# Altium footprint library Connector_Samtec_HLE_SMD.PcbLib: 290 footprints (part 19 of 24)
Each footprint in its own frame and in the unit in brackets; x right, y up, seen from the top. Pads: shape width x height; smd on the part's side, far side on the other; paste and mask are expansions set on the pad; w line width, h text height; cw(c..) or ccw(c..) is an arc to the next point about the centre after c.
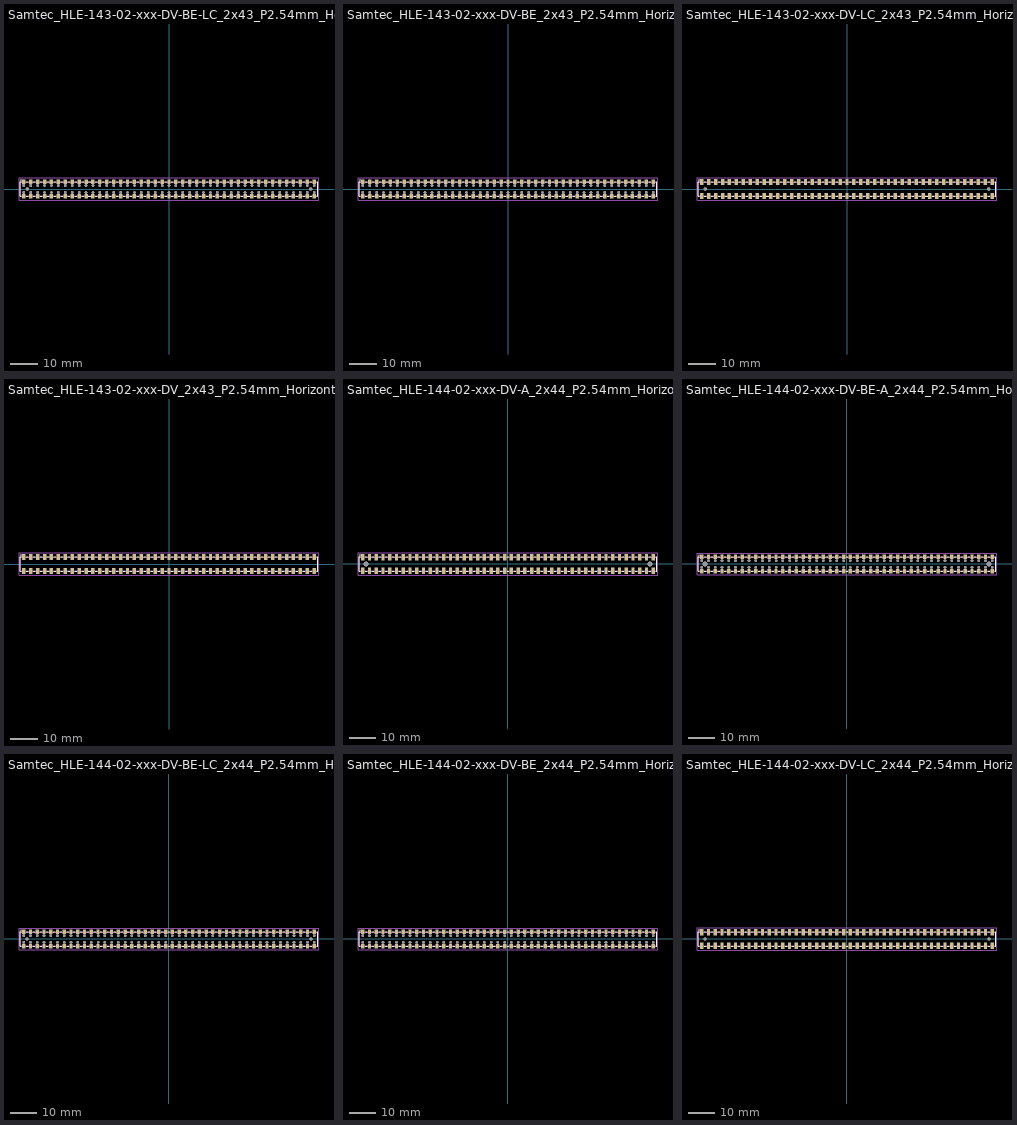
[diagram p18: the footprints below, top view; thin cyan lines are the x and y axes]

## Samtec_HLE-143-02-xxx-DV-BE-LC_2x43_P2.54mm_Horizontal [mm]
pads (174):
  rect 1.27x1.68 smd: 1(-53.34,2.72) 2(-53.34,-2.72) 3(-50.8,2.72) 4(-50.8,-2.72) 5(-48.26,2.72) 6(-48.26,-2.72) 7(-45.72,2.72) 8(-45.72,-2.72) 9(-43.18,2.72) 10(-43.18,-2.72) 11(-40.64,2.72) 12(-40.64,-2.72) 13(-38.1,2.72) 14(-38.1,-2.72) 15(-35.56,2.72) 16(-35.56,-2.72) 17(-33.02,2.72) 18(-33.02,-2.72) 19(-30.48,2.72) 20(-30.48,-2.72) 21(-27.94,2.72) 22(-27.94,-2.72) 23(-25.4,2.72) 24(-25.4,-2.72) 25(-22.86,2.72) 26(-22.86,-2.72) 27(-20.32,2.72) 28(-20.32,-2.72) 29(-17.78,2.72) 30(-17.78,-2.72) 31(-15.24,2.72) 32(-15.24,-2.72) 33(-12.7,2.72) 34(-12.7,-2.72) 35(-10.16,2.72) 36(-10.16,-2.72) 37(-7.62,2.72) 38(-7.62,-2.72) 39(-5.08,2.72) 40(-5.08,-2.72) 41(-2.54,2.72) 42(-2.54,-2.72) 43(0,2.72) 44(0,-2.72) 45(2.54,2.72) 46(2.54,-2.72) 47(5.08,2.72) 48(5.08,-2.72) 49(7.62,2.72) 50(7.62,-2.72) 51(10.16,2.72) 52(10.16,-2.72) 53(12.7,2.72) 54(12.7,-2.72) 55(15.24,2.72) 56(15.24,-2.72) 57(17.78,2.72) 58(17.78,-2.72) 59(20.32,2.72) 60(20.32,-2.72) 61(22.86,2.72) 62(22.86,-2.72) 63(25.4,2.72) 64(25.4,-2.72) 65(27.94,2.72) 66(27.94,-2.72) 67(30.48,2.72) 68(30.48,-2.72) 69(33.02,2.72) 70(33.02,-2.72) 71(35.56,2.72) 72(35.56,-2.72) 73(38.1,2.72) 74(38.1,-2.72) 75(40.64,2.72) 76(40.64,-2.72) 77(43.18,2.72) 78(43.18,-2.72) 79(45.72,2.72) 80(45.72,-2.72) 81(48.26,2.72) 82(48.26,-2.72) 83(50.8,2.72) 84(50.8,-2.72) 85(53.34,2.72) 86(53.34,-2.72)
  round 0.97 hole 0.97: Un1(-53.34,1.27) Un2(-53.34,-1.27) Un4(-50.8,1.27) Un5(-50.8,-1.27) Un6(-48.26,1.27) Un7(-48.26,-1.27) Un8(-45.72,1.27) Un9(-45.72,-1.27) Un10(-43.18,1.27) Un11(-43.18,-1.27) Un12(-40.64,1.27) Un13(-40.64,-1.27) Un14(-38.1,1.27) Un15(-38.1,-1.27) Un16(-35.56,1.27) Un17(-35.56,-1.27) Un18(-33.02,1.27) Un19(-33.02,-1.27) Un20(-30.48,1.27) Un21(-30.48,-1.27) Un22(-27.94,1.27) Un23(-27.94,-1.27) Un24(-25.4,1.27) Un25(-25.4,-1.27) Un26(-22.86,1.27) Un27(-22.86,-1.27) Un28(-20.32,1.27) Un29(-20.32,-1.27) Un30(-17.78,1.27) Un31(-17.78,-1.27) Un32(-15.24,1.27) Un33(-15.24,-1.27) Un34(-12.7,1.27) Un35(-12.7,-1.27) Un36(-10.16,1.27) Un37(-10.16,-1.27) Un38(-7.62,1.27) Un39(-7.62,-1.27) Un40(-5.08,1.27) Un41(-5.08,-1.27) Un42(-2.54,1.27) Un43(-2.54,-1.27) Un44(0,1.27) Un45(0,-1.27) Un46(2.54,1.27) Un47(2.54,-1.27) Un48(5.08,1.27) Un49(5.08,-1.27) Un50(7.62,1.27) Un51(7.62,-1.27) Un52(10.16,1.27) Un53(10.16,-1.27) Un54(12.7,1.27) Un55(12.7,-1.27) Un56(15.24,1.27) Un57(15.24,-1.27) Un58(17.78,1.27) Un59(17.78,-1.27) Un60(20.32,1.27) Un61(20.32,-1.27) Un62(22.86,1.27) Un63(22.86,-1.27) Un64(25.4,1.27) Un65(25.4,-1.27) Un66(27.94,1.27) Un67(27.94,-1.27) Un68(30.48,1.27) Un69(30.48,-1.27) Un70(33.02,1.27) Un71(33.02,-1.27) Un72(35.56,1.27) Un73(35.56,-1.27) Un74(38.1,1.27) Un75(38.1,-1.27) Un76(40.64,1.27) Un77(40.64,-1.27) Un78(43.18,1.27) Un79(43.18,-1.27) Un80(45.72,1.27) Un81(45.72,-1.27) Un82(48.26,1.27) Un83(48.26,-1.27) Un84(50.8,1.27) Un85(50.8,-1.27) Un87(53.34,1.27) Un88(53.34,-1.27)
  round 1.19 hole 1.19: Un3(-52.07,0) Un86(52.07,0)
F.SilkS:
  lines w0.254: -54.235,-2.65 -54.72,-2.65 -54.72,2.65 -54.235,2.65 -54.235,3.56 ; -52.445,-2.65 -51.695,-2.65 ; -52.445,2.65 -51.695,2.65 ; -49.905,-2.65 -49.155,-2.65 ; -49.905,2.65 -49.155,2.65 ; -47.365,-2.65 -46.615,-2.65 ; -47.365,2.65 -46.615,2.65 ; -44.825,-2.65 -44.075,-2.65 ; -44.825,2.65 -44.075,2.65 ; -42.285,-2.65 -41.535,-2.65 ; -42.285,2.65 -41.535,2.65 ; -39.745,-2.65 -38.995,-2.65 ; -39.745,2.65 -38.995,2.65 ; -37.205,-2.65 -36.455,-2.65 ; -37.205,2.65 -36.455,2.65 ; -34.665,-2.65 -33.915,-2.65 ; -34.665,2.65 -33.915,2.65 ; -32.125,-2.65 -31.375,-2.65 ; -32.125,2.65 -31.375,2.65 ; -29.585,-2.65 -28.835,-2.65 ; -29.585,2.65 -28.835,2.65 ; -27.045,-2.65 -26.295,-2.65 ; -27.045,2.65 -26.295,2.65 ; -24.505,-2.65 -23.755,-2.65 ; -24.505,2.65 -23.755,2.65 ; -21.965,-2.65 -21.215,-2.65 ; -21.965,2.65 -21.215,2.65 ; -19.425,-2.65 -18.675,-2.65 ; -19.425,2.65 -18.675,2.65 ; -16.885,-2.65 -16.135,-2.65 ; -16.885,2.65 -16.135,2.65 ; -14.345,-2.65 -13.595,-2.65 ; -14.345,2.65 -13.595,2.65 ; -11.805,-2.65 -11.055,-2.65 ; -11.805,2.65 -11.055,2.65 ; -9.265,-2.65 -8.515,-2.65 ; -9.265,2.65 -8.515,2.65 ; -6.725,-2.65 -5.975,-2.65 ; -6.725,2.65 -5.975,2.65 ; -4.185,-2.65 -3.435,-2.65 ; -4.185,2.65 -3.435,2.65 ; -1.645,-2.65 -0.895,-2.65 ; -1.645,2.65 -0.895,2.65 ; 0.895,-2.65 1.645,-2.65 ; 0.895,2.65 1.645,2.65 ; 3.435,-2.65 4.185,-2.65 ; 3.435,2.65 4.185,2.65 ; 5.975,-2.65 6.725,-2.65 ; 5.975,2.65 6.725,2.65 ; 8.515,-2.65 9.265,-2.65 ; 8.515,2.65 9.265,2.65 ; 11.055,-2.65 11.805,-2.65 ; 11.055,2.65 11.805,2.65 ; 13.595,-2.65 14.345,-2.65 ; 13.595,2.65 14.345,2.65 ; 16.135,-2.65 16.885,-2.65 ; 16.135,2.65 16.885,2.65 ; 18.675,-2.65 19.425,-2.65 ; 18.675,2.65 19.425,2.65 ; 21.215,-2.65 21.965,-2.65 ; 21.215,2.65 21.965,2.65 ; 23.755,-2.65 24.505,-2.65 ; 23.755,2.65 24.505,2.65 ; 26.295,-2.65 27.045,-2.65 ; 26.295,2.65 27.045,2.65 ; 28.835,-2.65 29.585,-2.65 ; 28.835,2.65 29.585,2.65 ; 31.375,-2.65 32.125,-2.65 ; 31.375,2.65 32.125,2.65 ; 33.915,-2.65 34.665,-2.65 ; 33.915,2.65 34.665,2.65 ; 36.455,-2.65 37.205,-2.65 ; 36.455,2.65 37.205,2.65 ; 38.995,-2.65 39.745,-2.65 ; 38.995,2.65 39.745,2.65 ; 41.535,-2.65 42.285,-2.65 ; 41.535,2.65 42.285,2.65 ; 44.075,-2.65 44.825,-2.65 ; 44.075,2.65 44.825,2.65 ; 46.615,-2.65 47.365,-2.65 ; 46.615,2.65 47.365,2.65 ; 49.155,-2.65 49.905,-2.65 ; 49.155,2.65 49.905,2.65 ; 51.695,-2.65 52.445,-2.65 ; 51.695,2.65 52.445,2.65 ; 54.235,-2.65 54.72,-2.65 54.72,2.65 54.235,2.65
Top Assembly:
  lines w0.254: -53.84,2.54 -53.34,1.833 -52.84,2.54 ; -54.61,-2.54 54.61,-2.54 54.61,2.54 -54.61,2.54 -54.61,-2.54
  text "'.Designator'" at -4.047,-2.68 h1
Top Courtyard:
  lines w0.254: -55.11,-4.07 55.11,-4.07 55.11,4.07 -55.11,4.07 -55.11,-4.07
Top Designator:
  text ".Designator" at -7.618,-0.508 h1.52

## Samtec_HLE-143-02-xxx-DV-BE_2x43_P2.54mm_Horizontal [mm]
pads (172):
  rect 1.27x1.68 smd: 1(-53.34,2.72) 2(-53.34,-2.72) 3(-50.8,2.72) 4(-50.8,-2.72) 5(-48.26,2.72) 6(-48.26,-2.72) 7(-45.72,2.72) 8(-45.72,-2.72) 9(-43.18,2.72) 10(-43.18,-2.72) 11(-40.64,2.72) 12(-40.64,-2.72) 13(-38.1,2.72) 14(-38.1,-2.72) 15(-35.56,2.72) 16(-35.56,-2.72) 17(-33.02,2.72) 18(-33.02,-2.72) 19(-30.48,2.72) 20(-30.48,-2.72) 21(-27.94,2.72) 22(-27.94,-2.72) 23(-25.4,2.72) 24(-25.4,-2.72) 25(-22.86,2.72) 26(-22.86,-2.72) 27(-20.32,2.72) 28(-20.32,-2.72) 29(-17.78,2.72) 30(-17.78,-2.72) 31(-15.24,2.72) 32(-15.24,-2.72) 33(-12.7,2.72) 34(-12.7,-2.72) 35(-10.16,2.72) 36(-10.16,-2.72) 37(-7.62,2.72) 38(-7.62,-2.72) 39(-5.08,2.72) 40(-5.08,-2.72) 41(-2.54,2.72) 42(-2.54,-2.72) 43(0,2.72) 44(0,-2.72) 45(2.54,2.72) 46(2.54,-2.72) 47(5.08,2.72) 48(5.08,-2.72) 49(7.62,2.72) 50(7.62,-2.72) 51(10.16,2.72) 52(10.16,-2.72) 53(12.7,2.72) 54(12.7,-2.72) 55(15.24,2.72) 56(15.24,-2.72) 57(17.78,2.72) 58(17.78,-2.72) 59(20.32,2.72) 60(20.32,-2.72) 61(22.86,2.72) 62(22.86,-2.72) 63(25.4,2.72) 64(25.4,-2.72) 65(27.94,2.72) 66(27.94,-2.72) 67(30.48,2.72) 68(30.48,-2.72) 69(33.02,2.72) 70(33.02,-2.72) 71(35.56,2.72) 72(35.56,-2.72) 73(38.1,2.72) 74(38.1,-2.72) 75(40.64,2.72) 76(40.64,-2.72) 77(43.18,2.72) 78(43.18,-2.72) 79(45.72,2.72) 80(45.72,-2.72) 81(48.26,2.72) 82(48.26,-2.72) 83(50.8,2.72) 84(50.8,-2.72) 85(53.34,2.72) 86(53.34,-2.72)
  round 0.97 hole 0.97: Un1(-53.34,1.27) Un2(-53.34,-1.27) Un3(-50.8,1.27) Un4(-50.8,-1.27) Un5(-48.26,1.27) Un6(-48.26,-1.27) Un7(-45.72,1.27) Un8(-45.72,-1.27) Un9(-43.18,1.27) Un10(-43.18,-1.27) Un11(-40.64,1.27) Un12(-40.64,-1.27) Un13(-38.1,1.27) Un14(-38.1,-1.27) Un15(-35.56,1.27) Un16(-35.56,-1.27) Un17(-33.02,1.27) Un18(-33.02,-1.27) Un19(-30.48,1.27) Un20(-30.48,-1.27) Un21(-27.94,1.27) Un22(-27.94,-1.27) Un23(-25.4,1.27) Un24(-25.4,-1.27) Un25(-22.86,1.27) Un26(-22.86,-1.27) Un27(-20.32,1.27) Un28(-20.32,-1.27) Un29(-17.78,1.27) Un30(-17.78,-1.27) Un31(-15.24,1.27) Un32(-15.24,-1.27) Un33(-12.7,1.27) Un34(-12.7,-1.27) Un35(-10.16,1.27) Un36(-10.16,-1.27) Un37(-7.62,1.27) Un38(-7.62,-1.27) Un39(-5.08,1.27) Un40(-5.08,-1.27) Un41(-2.54,1.27) Un42(-2.54,-1.27) Un43(0,1.27) Un44(0,-1.27) Un45(2.54,1.27) Un46(2.54,-1.27) Un47(5.08,1.27) Un48(5.08,-1.27) Un49(7.62,1.27) Un50(7.62,-1.27) Un51(10.16,1.27) Un52(10.16,-1.27) Un53(12.7,1.27) Un54(12.7,-1.27) Un55(15.24,1.27) Un56(15.24,-1.27) Un57(17.78,1.27) Un58(17.78,-1.27) Un59(20.32,1.27) Un60(20.32,-1.27) Un61(22.86,1.27) Un62(22.86,-1.27) Un63(25.4,1.27) Un64(25.4,-1.27) Un65(27.94,1.27) Un66(27.94,-1.27) Un67(30.48,1.27) Un68(30.48,-1.27) Un69(33.02,1.27) Un70(33.02,-1.27) Un71(35.56,1.27) Un72(35.56,-1.27) Un73(38.1,1.27) Un74(38.1,-1.27) Un75(40.64,1.27) Un76(40.64,-1.27) Un77(43.18,1.27) Un78(43.18,-1.27) Un79(45.72,1.27) Un80(45.72,-1.27) Un81(48.26,1.27) Un82(48.26,-1.27) Un83(50.8,1.27) Un84(50.8,-1.27) Un85(53.34,1.27) Un86(53.34,-1.27)
F.SilkS:
  lines w0.254: -54.235,-2.65 -54.72,-2.65 -54.72,2.65 -54.235,2.65 -54.235,3.56 ; -52.445,-2.65 -51.695,-2.65 ; -52.445,2.65 -51.695,2.65 ; -49.905,-2.65 -49.155,-2.65 ; -49.905,2.65 -49.155,2.65 ; -47.365,-2.65 -46.615,-2.65 ; -47.365,2.65 -46.615,2.65 ; -44.825,-2.65 -44.075,-2.65 ; -44.825,2.65 -44.075,2.65 ; -42.285,-2.65 -41.535,-2.65 ; -42.285,2.65 -41.535,2.65 ; -39.745,-2.65 -38.995,-2.65 ; -39.745,2.65 -38.995,2.65 ; -37.205,-2.65 -36.455,-2.65 ; -37.205,2.65 -36.455,2.65 ; -34.665,-2.65 -33.915,-2.65 ; -34.665,2.65 -33.915,2.65 ; -32.125,-2.65 -31.375,-2.65 ; -32.125,2.65 -31.375,2.65 ; -29.585,-2.65 -28.835,-2.65 ; -29.585,2.65 -28.835,2.65 ; -27.045,-2.65 -26.295,-2.65 ; -27.045,2.65 -26.295,2.65 ; -24.505,-2.65 -23.755,-2.65 ; -24.505,2.65 -23.755,2.65 ; -21.965,-2.65 -21.215,-2.65 ; -21.965,2.65 -21.215,2.65 ; -19.425,-2.65 -18.675,-2.65 ; -19.425,2.65 -18.675,2.65 ; -16.885,-2.65 -16.135,-2.65 ; -16.885,2.65 -16.135,2.65 ; -14.345,-2.65 -13.595,-2.65 ; -14.345,2.65 -13.595,2.65 ; -11.805,-2.65 -11.055,-2.65 ; -11.805,2.65 -11.055,2.65 ; -9.265,-2.65 -8.515,-2.65 ; -9.265,2.65 -8.515,2.65 ; -6.725,-2.65 -5.975,-2.65 ; -6.725,2.65 -5.975,2.65 ; -4.185,-2.65 -3.435,-2.65 ; -4.185,2.65 -3.435,2.65 ; -1.645,-2.65 -0.895,-2.65 ; -1.645,2.65 -0.895,2.65 ; 0.895,-2.65 1.645,-2.65 ; 0.895,2.65 1.645,2.65 ; 3.435,-2.65 4.185,-2.65 ; 3.435,2.65 4.185,2.65 ; 5.975,-2.65 6.725,-2.65 ; 5.975,2.65 6.725,2.65 ; 8.515,-2.65 9.265,-2.65 ; 8.515,2.65 9.265,2.65 ; 11.055,-2.65 11.805,-2.65 ; 11.055,2.65 11.805,2.65 ; 13.595,-2.65 14.345,-2.65 ; 13.595,2.65 14.345,2.65 ; 16.135,-2.65 16.885,-2.65 ; 16.135,2.65 16.885,2.65 ; 18.675,-2.65 19.425,-2.65 ; 18.675,2.65 19.425,2.65 ; 21.215,-2.65 21.965,-2.65 ; 21.215,2.65 21.965,2.65 ; 23.755,-2.65 24.505,-2.65 ; 23.755,2.65 24.505,2.65 ; 26.295,-2.65 27.045,-2.65 ; 26.295,2.65 27.045,2.65 ; 28.835,-2.65 29.585,-2.65 ; 28.835,2.65 29.585,2.65 ; 31.375,-2.65 32.125,-2.65 ; 31.375,2.65 32.125,2.65 ; 33.915,-2.65 34.665,-2.65 ; 33.915,2.65 34.665,2.65 ; 36.455,-2.65 37.205,-2.65 ; 36.455,2.65 37.205,2.65 ; 38.995,-2.65 39.745,-2.65 ; 38.995,2.65 39.745,2.65 ; 41.535,-2.65 42.285,-2.65 ; 41.535,2.65 42.285,2.65 ; 44.075,-2.65 44.825,-2.65 ; 44.075,2.65 44.825,2.65 ; 46.615,-2.65 47.365,-2.65 ; 46.615,2.65 47.365,2.65 ; 49.155,-2.65 49.905,-2.65 ; 49.155,2.65 49.905,2.65 ; 51.695,-2.65 52.445,-2.65 ; 51.695,2.65 52.445,2.65 ; 54.235,-2.65 54.72,-2.65 54.72,2.65 54.235,2.65
Top Assembly:
  lines w0.254: -53.84,2.54 -53.34,1.833 -52.84,2.54 ; -54.61,-2.54 54.61,-2.54 54.61,2.54 -54.61,2.54 -54.61,-2.54
  text "'.Designator'" at -4.047,-2.68 h1
Top Courtyard:
  lines w0.254: -55.11,-4.07 55.11,-4.07 55.11,4.07 -55.11,4.07 -55.11,-4.07
Top Designator:
  text ".Designator" at -7.618,-0.508 h1.52

## Samtec_HLE-143-02-xxx-DV-LC_2x43_P2.54mm_Horizontal [mm]
pads (88):
  rect 1.27x2.29 smd: 1(-53.34,2.525) 2(-53.34,-2.525) 3(-50.8,2.525) 4(-50.8,-2.525) 5(-48.26,2.525) 6(-48.26,-2.525) 7(-45.72,2.525) 8(-45.72,-2.525) 9(-43.18,2.525) 10(-43.18,-2.525) 11(-40.64,2.525) 12(-40.64,-2.525) 13(-38.1,2.525) 14(-38.1,-2.525) 15(-35.56,2.525) 16(-35.56,-2.525) 17(-33.02,2.525) 18(-33.02,-2.525) 19(-30.48,2.525) 20(-30.48,-2.525) 21(-27.94,2.525) 22(-27.94,-2.525) 23(-25.4,2.525) 24(-25.4,-2.525) 25(-22.86,2.525) 26(-22.86,-2.525) 27(-20.32,2.525) 28(-20.32,-2.525) 29(-17.78,2.525) 30(-17.78,-2.525) 31(-15.24,2.525) 32(-15.24,-2.525) 33(-12.7,2.525) 34(-12.7,-2.525) 35(-10.16,2.525) 36(-10.16,-2.525) 37(-7.62,2.525) 38(-7.62,-2.525) 39(-5.08,2.525) 40(-5.08,-2.525) 41(-2.54,2.525) 42(-2.54,-2.525) 43(0,2.525) 44(0,-2.525) 45(2.54,2.525) 46(2.54,-2.525) 47(5.08,2.525) 48(5.08,-2.525) 49(7.62,2.525) 50(7.62,-2.525) 51(10.16,2.525) 52(10.16,-2.525) 53(12.7,2.525) 54(12.7,-2.525) 55(15.24,2.525) 56(15.24,-2.525) 57(17.78,2.525) 58(17.78,-2.525) 59(20.32,2.525) 60(20.32,-2.525) 61(22.86,2.525) 62(22.86,-2.525) 63(25.4,2.525) 64(25.4,-2.525) 65(27.94,2.525) 66(27.94,-2.525) 67(30.48,2.525) 68(30.48,-2.525) 69(33.02,2.525) 70(33.02,-2.525) 71(35.56,2.525) 72(35.56,-2.525) 73(38.1,2.525) 74(38.1,-2.525) 75(40.64,2.525) 76(40.64,-2.525) 77(43.18,2.525) 78(43.18,-2.525) 79(45.72,2.525) 80(45.72,-2.525) 81(48.26,2.525) 82(48.26,-2.525) 83(50.8,2.525) 84(50.8,-2.525) 85(53.34,2.525) 86(53.34,-2.525)
  round 1.19 hole 1.19: Un1(-52.07,0) Un2(52.07,0)
F.SilkS:
  lines w0.254: -54.235,-2.65 -54.72,-2.65 -54.72,2.65 -54.235,2.65 -54.235,3.67 ; -52.445,-2.65 -51.695,-2.65 ; -52.445,2.65 -51.695,2.65 ; -49.905,-2.65 -49.155,-2.65 ; -49.905,2.65 -49.155,2.65 ; -47.365,-2.65 -46.615,-2.65 ; -47.365,2.65 -46.615,2.65 ; -44.825,-2.65 -44.075,-2.65 ; -44.825,2.65 -44.075,2.65 ; -42.285,-2.65 -41.535,-2.65 ; -42.285,2.65 -41.535,2.65 ; -39.745,-2.65 -38.995,-2.65 ; -39.745,2.65 -38.995,2.65 ; -37.205,-2.65 -36.455,-2.65 ; -37.205,2.65 -36.455,2.65 ; -34.665,-2.65 -33.915,-2.65 ; -34.665,2.65 -33.915,2.65 ; -32.125,-2.65 -31.375,-2.65 ; -32.125,2.65 -31.375,2.65 ; -29.585,-2.65 -28.835,-2.65 ; -29.585,2.65 -28.835,2.65 ; -27.045,-2.65 -26.295,-2.65 ; -27.045,2.65 -26.295,2.65 ; -24.505,-2.65 -23.755,-2.65 ; -24.505,2.65 -23.755,2.65 ; -21.965,-2.65 -21.215,-2.65 ; -21.965,2.65 -21.215,2.65 ; -19.425,-2.65 -18.675,-2.65 ; -19.425,2.65 -18.675,2.65 ; -16.885,-2.65 -16.135,-2.65 ; -16.885,2.65 -16.135,2.65 ; -14.345,-2.65 -13.595,-2.65 ; -14.345,2.65 -13.595,2.65 ; -11.805,-2.65 -11.055,-2.65 ; -11.805,2.65 -11.055,2.65 ; -9.265,-2.65 -8.515,-2.65 ; -9.265,2.65 -8.515,2.65 ; -6.725,-2.65 -5.975,-2.65 ; -6.725,2.65 -5.975,2.65 ; -4.185,-2.65 -3.435,-2.65 ; -4.185,2.65 -3.435,2.65 ; -1.645,-2.65 -0.895,-2.65 ; -1.645,2.65 -0.895,2.65 ; 0.895,-2.65 1.645,-2.65 ; 0.895,2.65 1.645,2.65 ; 3.435,-2.65 4.185,-2.65 ; 3.435,2.65 4.185,2.65 ; 5.975,-2.65 6.725,-2.65 ; 5.975,2.65 6.725,2.65 ; 8.515,-2.65 9.265,-2.65 ; 8.515,2.65 9.265,2.65 ; 11.055,-2.65 11.805,-2.65 ; 11.055,2.65 11.805,2.65 ; 13.595,-2.65 14.345,-2.65 ; 13.595,2.65 14.345,2.65 ; 16.135,-2.65 16.885,-2.65 ; 16.135,2.65 16.885,2.65 ; 18.675,-2.65 19.425,-2.65 ; 18.675,2.65 19.425,2.65 ; 21.215,-2.65 21.965,-2.65 ; 21.215,2.65 21.965,2.65 ; 23.755,-2.65 24.505,-2.65 ; 23.755,2.65 24.505,2.65 ; 26.295,-2.65 27.045,-2.65 ; 26.295,2.65 27.045,2.65 ; 28.835,-2.65 29.585,-2.65 ; 28.835,2.65 29.585,2.65 ; 31.375,-2.65 32.125,-2.65 ; 31.375,2.65 32.125,2.65 ; 33.915,-2.65 34.665,-2.65 ; 33.915,2.65 34.665,2.65 ; 36.455,-2.65 37.205,-2.65 ; 36.455,2.65 37.205,2.65 ; 38.995,-2.65 39.745,-2.65 ; 38.995,2.65 39.745,2.65 ; 41.535,-2.65 42.285,-2.65 ; 41.535,2.65 42.285,2.65 ; 44.075,-2.65 44.825,-2.65 ; 44.075,2.65 44.825,2.65 ; 46.615,-2.65 47.365,-2.65 ; 46.615,2.65 47.365,2.65 ; 49.155,-2.65 49.905,-2.65 ; 49.155,2.65 49.905,2.65 ; 51.695,-2.65 52.445,-2.65 ; 51.695,2.65 52.445,2.65 ; 54.235,-2.65 54.72,-2.65 54.72,2.65 54.235,2.65
Top Assembly:
  lines w0.254: -53.84,2.54 -53.34,1.833 -52.84,2.54 ; -54.61,-2.54 54.61,-2.54 54.61,2.54 -54.61,2.54 -54.61,-2.54
  text "'.Designator'" at -4.047,-2.68 h1
Top Courtyard:
  lines w0.254: -55.11,-4.17 55.11,-4.17 55.11,4.17 -55.11,4.17 -55.11,-4.17
Top Designator:
  text ".Designator" at -7.618,-0.508 h1.52

## Samtec_HLE-143-02-xxx-DV_2x43_P2.54mm_Horizontal [mm]
pads (86):
  rect 1.27x2.29 smd: 1(-53.34,2.525) 2(-53.34,-2.525) 3(-50.8,2.525) 4(-50.8,-2.525) 5(-48.26,2.525) 6(-48.26,-2.525) 7(-45.72,2.525) 8(-45.72,-2.525) 9(-43.18,2.525) 10(-43.18,-2.525) 11(-40.64,2.525) 12(-40.64,-2.525) 13(-38.1,2.525) 14(-38.1,-2.525) 15(-35.56,2.525) 16(-35.56,-2.525) 17(-33.02,2.525) 18(-33.02,-2.525) 19(-30.48,2.525) 20(-30.48,-2.525) 21(-27.94,2.525) 22(-27.94,-2.525) 23(-25.4,2.525) 24(-25.4,-2.525) 25(-22.86,2.525) 26(-22.86,-2.525) 27(-20.32,2.525) 28(-20.32,-2.525) 29(-17.78,2.525) 30(-17.78,-2.525) 31(-15.24,2.525) 32(-15.24,-2.525) 33(-12.7,2.525) 34(-12.7,-2.525) 35(-10.16,2.525) 36(-10.16,-2.525) 37(-7.62,2.525) 38(-7.62,-2.525) 39(-5.08,2.525) 40(-5.08,-2.525) 41(-2.54,2.525) 42(-2.54,-2.525) 43(0,2.525) 44(0,-2.525) 45(2.54,2.525) 46(2.54,-2.525) 47(5.08,2.525) 48(5.08,-2.525) 49(7.62,2.525) 50(7.62,-2.525) 51(10.16,2.525) 52(10.16,-2.525) 53(12.7,2.525) 54(12.7,-2.525) 55(15.24,2.525) 56(15.24,-2.525) 57(17.78,2.525) 58(17.78,-2.525) 59(20.32,2.525) 60(20.32,-2.525) 61(22.86,2.525) 62(22.86,-2.525) 63(25.4,2.525) 64(25.4,-2.525) 65(27.94,2.525) 66(27.94,-2.525) 67(30.48,2.525) 68(30.48,-2.525) 69(33.02,2.525) 70(33.02,-2.525) 71(35.56,2.525) 72(35.56,-2.525) 73(38.1,2.525) 74(38.1,-2.525) 75(40.64,2.525) 76(40.64,-2.525) 77(43.18,2.525) 78(43.18,-2.525) 79(45.72,2.525) 80(45.72,-2.525) 81(48.26,2.525) 82(48.26,-2.525) 83(50.8,2.525) 84(50.8,-2.525) 85(53.34,2.525) 86(53.34,-2.525)
F.SilkS:
  lines w0.254: -54.235,-2.65 -54.72,-2.65 -54.72,2.65 -54.235,2.65 -54.235,3.67 ; -52.445,-2.65 -51.695,-2.65 ; -52.445,2.65 -51.695,2.65 ; -49.905,-2.65 -49.155,-2.65 ; -49.905,2.65 -49.155,2.65 ; -47.365,-2.65 -46.615,-2.65 ; -47.365,2.65 -46.615,2.65 ; -44.825,-2.65 -44.075,-2.65 ; -44.825,2.65 -44.075,2.65 ; -42.285,-2.65 -41.535,-2.65 ; -42.285,2.65 -41.535,2.65 ; -39.745,-2.65 -38.995,-2.65 ; -39.745,2.65 -38.995,2.65 ; -37.205,-2.65 -36.455,-2.65 ; -37.205,2.65 -36.455,2.65 ; -34.665,-2.65 -33.915,-2.65 ; -34.665,2.65 -33.915,2.65 ; -32.125,-2.65 -31.375,-2.65 ; -32.125,2.65 -31.375,2.65 ; -29.585,-2.65 -28.835,-2.65 ; -29.585,2.65 -28.835,2.65 ; -27.045,-2.65 -26.295,-2.65 ; -27.045,2.65 -26.295,2.65 ; -24.505,-2.65 -23.755,-2.65 ; -24.505,2.65 -23.755,2.65 ; -21.965,-2.65 -21.215,-2.65 ; -21.965,2.65 -21.215,2.65 ; -19.425,-2.65 -18.675,-2.65 ; -19.425,2.65 -18.675,2.65 ; -16.885,-2.65 -16.135,-2.65 ; -16.885,2.65 -16.135,2.65 ; -14.345,-2.65 -13.595,-2.65 ; -14.345,2.65 -13.595,2.65 ; -11.805,-2.65 -11.055,-2.65 ; -11.805,2.65 -11.055,2.65 ; -9.265,-2.65 -8.515,-2.65 ; -9.265,2.65 -8.515,2.65 ; -6.725,-2.65 -5.975,-2.65 ; -6.725,2.65 -5.975,2.65 ; -4.185,-2.65 -3.435,-2.65 ; -4.185,2.65 -3.435,2.65 ; -1.645,-2.65 -0.895,-2.65 ; -1.645,2.65 -0.895,2.65 ; 0.895,-2.65 1.645,-2.65 ; 0.895,2.65 1.645,2.65 ; 3.435,-2.65 4.185,-2.65 ; 3.435,2.65 4.185,2.65 ; 5.975,-2.65 6.725,-2.65 ; 5.975,2.65 6.725,2.65 ; 8.515,-2.65 9.265,-2.65 ; 8.515,2.65 9.265,2.65 ; 11.055,-2.65 11.805,-2.65 ; 11.055,2.65 11.805,2.65 ; 13.595,-2.65 14.345,-2.65 ; 13.595,2.65 14.345,2.65 ; 16.135,-2.65 16.885,-2.65 ; 16.135,2.65 16.885,2.65 ; 18.675,-2.65 19.425,-2.65 ; 18.675,2.65 19.425,2.65 ; 21.215,-2.65 21.965,-2.65 ; 21.215,2.65 21.965,2.65 ; 23.755,-2.65 24.505,-2.65 ; 23.755,2.65 24.505,2.65 ; 26.295,-2.65 27.045,-2.65 ; 26.295,2.65 27.045,2.65 ; 28.835,-2.65 29.585,-2.65 ; 28.835,2.65 29.585,2.65 ; 31.375,-2.65 32.125,-2.65 ; 31.375,2.65 32.125,2.65 ; 33.915,-2.65 34.665,-2.65 ; 33.915,2.65 34.665,2.65 ; 36.455,-2.65 37.205,-2.65 ; 36.455,2.65 37.205,2.65 ; 38.995,-2.65 39.745,-2.65 ; 38.995,2.65 39.745,2.65 ; 41.535,-2.65 42.285,-2.65 ; 41.535,2.65 42.285,2.65 ; 44.075,-2.65 44.825,-2.65 ; 44.075,2.65 44.825,2.65 ; 46.615,-2.65 47.365,-2.65 ; 46.615,2.65 47.365,2.65 ; 49.155,-2.65 49.905,-2.65 ; 49.155,2.65 49.905,2.65 ; 51.695,-2.65 52.445,-2.65 ; 51.695,2.65 52.445,2.65 ; 54.235,-2.65 54.72,-2.65 54.72,2.65 54.235,2.65
Top Assembly:
  lines w0.254: -53.84,2.54 -53.34,1.833 -52.84,2.54 ; -54.61,-2.54 54.61,-2.54 54.61,2.54 -54.61,2.54 -54.61,-2.54
  text "'.Designator'" at -4.047,-2.68 h1
Top Courtyard:
  lines w0.254: -55.11,-4.17 55.11,-4.17 55.11,4.17 -55.11,4.17 -55.11,-4.17
Top Designator:
  text ".Designator" at -7.618,-0.508 h1.52

## Samtec_HLE-144-02-xxx-DV-A_2x44_P2.54mm_Horizontal [mm]
pads (90):
  rect 1.27x2.29 smd: 1(-54.61,2.525) 2(-54.61,-2.525) 3(-52.07,2.525) 4(-52.07,-2.525) 5(-49.53,2.525) 6(-49.53,-2.525) 7(-46.99,2.525) 8(-46.99,-2.525) 9(-44.45,2.525) 10(-44.45,-2.525) 11(-41.91,2.525) 12(-41.91,-2.525) 13(-39.37,2.525) 14(-39.37,-2.525) 15(-36.83,2.525) 16(-36.83,-2.525) 17(-34.29,2.525) 18(-34.29,-2.525) 19(-31.75,2.525) 20(-31.75,-2.525) 21(-29.21,2.525) 22(-29.21,-2.525) 23(-26.67,2.525) 24(-26.67,-2.525) 25(-24.13,2.525) 26(-24.13,-2.525) 27(-21.59,2.525) 28(-21.59,-2.525) 29(-19.05,2.525) 30(-19.05,-2.525) 31(-16.51,2.525) 32(-16.51,-2.525) 33(-13.97,2.525) 34(-13.97,-2.525) 35(-11.43,2.525) 36(-11.43,-2.525) 37(-8.89,2.525) 38(-8.89,-2.525) 39(-6.35,2.525) 40(-6.35,-2.525) 41(-3.81,2.525) 42(-3.81,-2.525) 43(-1.27,2.525) 44(-1.27,-2.525) 45(1.27,2.525) 46(1.27,-2.525) 47(3.81,2.525) 48(3.81,-2.525) 49(6.35,2.525) 50(6.35,-2.525) 51(8.89,2.525) 52(8.89,-2.525) 53(11.43,2.525) 54(11.43,-2.525) 55(13.97,2.525) 56(13.97,-2.525) 57(16.51,2.525) 58(16.51,-2.525) 59(19.05,2.525) 60(19.05,-2.525) 61(21.59,2.525) 62(21.59,-2.525) 63(24.13,2.525) 64(24.13,-2.525) 65(26.67,2.525) 66(26.67,-2.525) 67(29.21,2.525) 68(29.21,-2.525) 69(31.75,2.525) 70(31.75,-2.525) 71(34.29,2.525) 72(34.29,-2.525) 73(36.83,2.525) 74(36.83,-2.525) 75(39.37,2.525) 76(39.37,-2.525) 77(41.91,2.525) 78(41.91,-2.525) 79(44.45,2.525) 80(44.45,-2.525) 81(46.99,2.525) 82(46.99,-2.525) 83(49.53,2.525) 84(49.53,-2.525) 85(52.07,2.525) 86(52.07,-2.525) 87(54.61,2.525) 88(54.61,-2.525)
  round 1.78 hole 1.78: Un1(-53.34,0) Un2(53.34,0)
F.SilkS:
  lines w0.254: -55.505,-2.65 -55.99,-2.65 -55.99,2.65 -55.505,2.65 -55.505,3.67 ; -53.715,-2.65 -52.965,-2.65 ; -53.715,2.65 -52.965,2.65 ; -51.175,-2.65 -50.425,-2.65 ; -51.175,2.65 -50.425,2.65 ; -48.635,-2.65 -47.885,-2.65 ; -48.635,2.65 -47.885,2.65 ; -46.095,-2.65 -45.345,-2.65 ; -46.095,2.65 -45.345,2.65 ; -43.555,-2.65 -42.805,-2.65 ; -43.555,2.65 -42.805,2.65 ; -41.015,-2.65 -40.265,-2.65 ; -41.015,2.65 -40.265,2.65 ; -38.475,-2.65 -37.725,-2.65 ; -38.475,2.65 -37.725,2.65 ; -35.935,-2.65 -35.185,-2.65 ; -35.935,2.65 -35.185,2.65 ; -33.395,-2.65 -32.645,-2.65 ; -33.395,2.65 -32.645,2.65 ; -30.855,-2.65 -30.105,-2.65 ; -30.855,2.65 -30.105,2.65 ; -28.315,-2.65 -27.565,-2.65 ; -28.315,2.65 -27.565,2.65 ; -25.775,-2.65 -25.025,-2.65 ; -25.775,2.65 -25.025,2.65 ; -23.235,-2.65 -22.485,-2.65 ; -23.235,2.65 -22.485,2.65 ; -20.695,-2.65 -19.945,-2.65 ; -20.695,2.65 -19.945,2.65 ; -18.155,-2.65 -17.405,-2.65 ; -18.155,2.65 -17.405,2.65 ; -15.615,-2.65 -14.865,-2.65 ; -15.615,2.65 -14.865,2.65 ; -13.075,-2.65 -12.325,-2.65 ; -13.075,2.65 -12.325,2.65 ; -10.535,-2.65 -9.785,-2.65 ; -10.535,2.65 -9.785,2.65 ; -7.995,-2.65 -7.245,-2.65 ; -7.995,2.65 -7.245,2.65 ; -5.455,-2.65 -4.705,-2.65 ; -5.455,2.65 -4.705,2.65 ; -2.915,-2.65 -2.165,-2.65 ; -2.915,2.65 -2.165,2.65 ; -0.375,-2.65 0.375,-2.65 ; -0.375,2.65 0.375,2.65 ; 2.165,-2.65 2.915,-2.65 ; 2.165,2.65 2.915,2.65 ; 4.705,-2.65 5.455,-2.65 ; 4.705,2.65 5.455,2.65 ; 7.245,-2.65 7.995,-2.65 ; 7.245,2.65 7.995,2.65 ; 9.785,-2.65 10.535,-2.65 ; 9.785,2.65 10.535,2.65 ; 12.325,-2.65 13.075,-2.65 ; 12.325,2.65 13.075,2.65 ; 14.865,-2.65 15.615,-2.65 ; 14.865,2.65 15.615,2.65 ; 17.405,-2.65 18.155,-2.65 ; 17.405,2.65 18.155,2.65 ; 19.945,-2.65 20.695,-2.65 ; 19.945,2.65 20.695,2.65 ; 22.485,-2.65 23.235,-2.65 ; 22.485,2.65 23.235,2.65 ; 25.025,-2.65 25.775,-2.65 ; 25.025,2.65 25.775,2.65 ; 27.565,-2.65 28.315,-2.65 ; 27.565,2.65 28.315,2.65 ; 30.105,-2.65 30.855,-2.65 ; 30.105,2.65 30.855,2.65 ; 32.645,-2.65 33.395,-2.65 ; 32.645,2.65 33.395,2.65 ; 35.185,-2.65 35.935,-2.65 ; 35.185,2.65 35.935,2.65 ; 37.725,-2.65 38.475,-2.65 ; 37.725,2.65 38.475,2.65 ; 40.265,-2.65 41.015,-2.65 ; 40.265,2.65 41.015,2.65 ; 42.805,-2.65 43.555,-2.65 ; 42.805,2.65 43.555,2.65 ; 45.345,-2.65 46.095,-2.65 ; 45.345,2.65 46.095,2.65 ; 47.885,-2.65 48.635,-2.65 ; 47.885,2.65 48.635,2.65 ; 50.425,-2.65 51.175,-2.65 ; 50.425,2.65 51.175,2.65 ; 52.965,-2.65 53.715,-2.65 ; 52.965,2.65 53.715,2.65 ; 55.505,-2.65 55.99,-2.65 55.99,2.65 55.505,2.65
Top Assembly:
  lines w0.254: -55.11,2.54 -54.61,1.833 -54.11,2.54 ; -55.88,-2.54 55.88,-2.54 55.88,2.54 -55.88,2.54 -55.88,-2.54
  text "'.Designator'" at -4.047,-2.68 h1
Top Courtyard:
  lines w0.254: -56.38,-4.17 56.38,-4.17 56.38,4.17 -56.38,4.17 -56.38,-4.17
Top Designator:
  text ".Designator" at -7.618,-0.508 h1.52

## Samtec_HLE-144-02-xxx-DV-BE-A_2x44_P2.54mm_Horizontal [mm]
pads (178):
  rect 1.27x1.68 smd: 1(-54.61,2.72) 2(-54.61,-2.72) 3(-52.07,2.72) 4(-52.07,-2.72) 5(-49.53,2.72) 6(-49.53,-2.72) 7(-46.99,2.72) 8(-46.99,-2.72) 9(-44.45,2.72) 10(-44.45,-2.72) 11(-41.91,2.72) 12(-41.91,-2.72) 13(-39.37,2.72) 14(-39.37,-2.72) 15(-36.83,2.72) 16(-36.83,-2.72) 17(-34.29,2.72) 18(-34.29,-2.72) 19(-31.75,2.72) 20(-31.75,-2.72) 21(-29.21,2.72) 22(-29.21,-2.72) 23(-26.67,2.72) 24(-26.67,-2.72) 25(-24.13,2.72) 26(-24.13,-2.72) 27(-21.59,2.72) 28(-21.59,-2.72) 29(-19.05,2.72) 30(-19.05,-2.72) 31(-16.51,2.72) 32(-16.51,-2.72) 33(-13.97,2.72) 34(-13.97,-2.72) 35(-11.43,2.72) 36(-11.43,-2.72) 37(-8.89,2.72) 38(-8.89,-2.72) 39(-6.35,2.72) 40(-6.35,-2.72) 41(-3.81,2.72) 42(-3.81,-2.72) 43(-1.27,2.72) 44(-1.27,-2.72) 45(1.27,2.72) 46(1.27,-2.72) 47(3.81,2.72) 48(3.81,-2.72) 49(6.35,2.72) 50(6.35,-2.72) 51(8.89,2.72) 52(8.89,-2.72) 53(11.43,2.72) 54(11.43,-2.72) 55(13.97,2.72) 56(13.97,-2.72) 57(16.51,2.72) 58(16.51,-2.72) 59(19.05,2.72) 60(19.05,-2.72) 61(21.59,2.72) 62(21.59,-2.72) 63(24.13,2.72) 64(24.13,-2.72) 65(26.67,2.72) 66(26.67,-2.72) 67(29.21,2.72) 68(29.21,-2.72) 69(31.75,2.72) 70(31.75,-2.72) 71(34.29,2.72) 72(34.29,-2.72) 73(36.83,2.72) 74(36.83,-2.72) 75(39.37,2.72) 76(39.37,-2.72) 77(41.91,2.72) 78(41.91,-2.72) 79(44.45,2.72) 80(44.45,-2.72) 81(46.99,2.72) 82(46.99,-2.72) 83(49.53,2.72) 84(49.53,-2.72) 85(52.07,2.72) 86(52.07,-2.72) 87(54.61,2.72) 88(54.61,-2.72)
  round 0.97 hole 0.97: Un1(-54.61,1.27) Un2(-54.61,-1.27) Un4(-52.07,1.27) Un5(-52.07,-1.27) Un6(-49.53,1.27) Un7(-49.53,-1.27) Un8(-46.99,1.27) Un9(-46.99,-1.27) Un10(-44.45,1.27) Un11(-44.45,-1.27) Un12(-41.91,1.27) Un13(-41.91,-1.27) Un14(-39.37,1.27) Un15(-39.37,-1.27) Un16(-36.83,1.27) Un17(-36.83,-1.27) Un18(-34.29,1.27) Un19(-34.29,-1.27) Un20(-31.75,1.27) Un21(-31.75,-1.27) Un22(-29.21,1.27) Un23(-29.21,-1.27) Un24(-26.67,1.27) Un25(-26.67,-1.27) Un26(-24.13,1.27) Un27(-24.13,-1.27) Un28(-21.59,1.27) Un29(-21.59,-1.27) Un30(-19.05,1.27) Un31(-19.05,-1.27) Un32(-16.51,1.27) Un33(-16.51,-1.27) Un34(-13.97,1.27) Un35(-13.97,-1.27) Un36(-11.43,1.27) Un37(-11.43,-1.27) Un38(-8.89,1.27) Un39(-8.89,-1.27) Un40(-6.35,1.27) Un41(-6.35,-1.27) Un42(-3.81,1.27) Un43(-3.81,-1.27) Un44(-1.27,1.27) Un45(-1.27,-1.27) Un46(1.27,1.27) Un47(1.27,-1.27) Un48(3.81,1.27) Un49(3.81,-1.27) Un50(6.35,1.27) Un51(6.35,-1.27) Un52(8.89,1.27) Un53(8.89,-1.27) Un54(11.43,1.27) Un55(11.43,-1.27) Un56(13.97,1.27) Un57(13.97,-1.27) Un58(16.51,1.27) Un59(16.51,-1.27) Un60(19.05,1.27) Un61(19.05,-1.27) Un62(21.59,1.27) Un63(21.59,-1.27) Un64(24.13,1.27) Un65(24.13,-1.27) Un66(26.67,1.27) Un67(26.67,-1.27) Un68(29.21,1.27) Un69(29.21,-1.27) Un70(31.75,1.27) Un71(31.75,-1.27) Un72(34.29,1.27) Un73(34.29,-1.27) Un74(36.83,1.27) Un75(36.83,-1.27) Un76(39.37,1.27) Un77(39.37,-1.27) Un78(41.91,1.27) Un79(41.91,-1.27) Un80(44.45,1.27) Un81(44.45,-1.27) Un82(46.99,1.27) Un83(46.99,-1.27) Un84(49.53,1.27) Un85(49.53,-1.27) Un86(52.07,1.27) Un87(52.07,-1.27) Un89(54.61,1.27) Un90(54.61,-1.27)
  round 1.78 hole 1.78: Un3(-53.34,0) Un88(53.34,0)
F.SilkS:
  lines w0.254: -55.505,-2.65 -55.99,-2.65 -55.99,2.65 -55.505,2.65 -55.505,3.56 ; -53.715,-2.65 -52.965,-2.65 ; -53.715,2.65 -52.965,2.65 ; -51.175,-2.65 -50.425,-2.65 ; -51.175,2.65 -50.425,2.65 ; -48.635,-2.65 -47.885,-2.65 ; -48.635,2.65 -47.885,2.65 ; -46.095,-2.65 -45.345,-2.65 ; -46.095,2.65 -45.345,2.65 ; -43.555,-2.65 -42.805,-2.65 ; -43.555,2.65 -42.805,2.65 ; -41.015,-2.65 -40.265,-2.65 ; -41.015,2.65 -40.265,2.65 ; -38.475,-2.65 -37.725,-2.65 ; -38.475,2.65 -37.725,2.65 ; -35.935,-2.65 -35.185,-2.65 ; -35.935,2.65 -35.185,2.65 ; -33.395,-2.65 -32.645,-2.65 ; -33.395,2.65 -32.645,2.65 ; -30.855,-2.65 -30.105,-2.65 ; -30.855,2.65 -30.105,2.65 ; -28.315,-2.65 -27.565,-2.65 ; -28.315,2.65 -27.565,2.65 ; -25.775,-2.65 -25.025,-2.65 ; -25.775,2.65 -25.025,2.65 ; -23.235,-2.65 -22.485,-2.65 ; -23.235,2.65 -22.485,2.65 ; -20.695,-2.65 -19.945,-2.65 ; -20.695,2.65 -19.945,2.65 ; -18.155,-2.65 -17.405,-2.65 ; -18.155,2.65 -17.405,2.65 ; -15.615,-2.65 -14.865,-2.65 ; -15.615,2.65 -14.865,2.65 ; -13.075,-2.65 -12.325,-2.65 ; -13.075,2.65 -12.325,2.65 ; -10.535,-2.65 -9.785,-2.65 ; -10.535,2.65 -9.785,2.65 ; -7.995,-2.65 -7.245,-2.65 ; -7.995,2.65 -7.245,2.65 ; -5.455,-2.65 -4.705,-2.65 ; -5.455,2.65 -4.705,2.65 ; -2.915,-2.65 -2.165,-2.65 ; -2.915,2.65 -2.165,2.65 ; -0.375,-2.65 0.375,-2.65 ; -0.375,2.65 0.375,2.65 ; 2.165,-2.65 2.915,-2.65 ; 2.165,2.65 2.915,2.65 ; 4.705,-2.65 5.455,-2.65 ; 4.705,2.65 5.455,2.65 ; 7.245,-2.65 7.995,-2.65 ; 7.245,2.65 7.995,2.65 ; 9.785,-2.65 10.535,-2.65 ; 9.785,2.65 10.535,2.65 ; 12.325,-2.65 13.075,-2.65 ; 12.325,2.65 13.075,2.65 ; 14.865,-2.65 15.615,-2.65 ; 14.865,2.65 15.615,2.65 ; 17.405,-2.65 18.155,-2.65 ; 17.405,2.65 18.155,2.65 ; 19.945,-2.65 20.695,-2.65 ; 19.945,2.65 20.695,2.65 ; 22.485,-2.65 23.235,-2.65 ; 22.485,2.65 23.235,2.65 ; 25.025,-2.65 25.775,-2.65 ; 25.025,2.65 25.775,2.65 ; 27.565,-2.65 28.315,-2.65 ; 27.565,2.65 28.315,2.65 ; 30.105,-2.65 30.855,-2.65 ; 30.105,2.65 30.855,2.65 ; 32.645,-2.65 33.395,-2.65 ; 32.645,2.65 33.395,2.65 ; 35.185,-2.65 35.935,-2.65 ; 35.185,2.65 35.935,2.65 ; 37.725,-2.65 38.475,-2.65 ; 37.725,2.65 38.475,2.65 ; 40.265,-2.65 41.015,-2.65 ; 40.265,2.65 41.015,2.65 ; 42.805,-2.65 43.555,-2.65 ; 42.805,2.65 43.555,2.65 ; 45.345,-2.65 46.095,-2.65 ; 45.345,2.65 46.095,2.65 ; 47.885,-2.65 48.635,-2.65 ; 47.885,2.65 48.635,2.65 ; 50.425,-2.65 51.175,-2.65 ; 50.425,2.65 51.175,2.65 ; 52.965,-2.65 53.715,-2.65 ; 52.965,2.65 53.715,2.65 ; 55.505,-2.65 55.99,-2.65 55.99,2.65 55.505,2.65
Top Assembly:
  lines w0.254: -55.11,2.54 -54.61,1.833 -54.11,2.54 ; -55.88,-2.54 55.88,-2.54 55.88,2.54 -55.88,2.54 -55.88,-2.54
  text "'.Designator'" at -4.047,-2.68 h1
Top Courtyard:
  lines w0.254: -56.38,-4.07 56.38,-4.07 56.38,4.07 -56.38,4.07 -56.38,-4.07
Top Designator:
  text ".Designator" at -7.618,-0.508 h1.52

## Samtec_HLE-144-02-xxx-DV-BE-LC_2x44_P2.54mm_Horizontal [mm]
pads (178):
  rect 1.27x1.68 smd: 1(-54.61,2.72) 2(-54.61,-2.72) 3(-52.07,2.72) 4(-52.07,-2.72) 5(-49.53,2.72) 6(-49.53,-2.72) 7(-46.99,2.72) 8(-46.99,-2.72) 9(-44.45,2.72) 10(-44.45,-2.72) 11(-41.91,2.72) 12(-41.91,-2.72) 13(-39.37,2.72) 14(-39.37,-2.72) 15(-36.83,2.72) 16(-36.83,-2.72) 17(-34.29,2.72) 18(-34.29,-2.72) 19(-31.75,2.72) 20(-31.75,-2.72) 21(-29.21,2.72) 22(-29.21,-2.72) 23(-26.67,2.72) 24(-26.67,-2.72) 25(-24.13,2.72) 26(-24.13,-2.72) 27(-21.59,2.72) 28(-21.59,-2.72) 29(-19.05,2.72) 30(-19.05,-2.72) 31(-16.51,2.72) 32(-16.51,-2.72) 33(-13.97,2.72) 34(-13.97,-2.72) 35(-11.43,2.72) 36(-11.43,-2.72) 37(-8.89,2.72) 38(-8.89,-2.72) 39(-6.35,2.72) 40(-6.35,-2.72) 41(-3.81,2.72) 42(-3.81,-2.72) 43(-1.27,2.72) 44(-1.27,-2.72) 45(1.27,2.72) 46(1.27,-2.72) 47(3.81,2.72) 48(3.81,-2.72) 49(6.35,2.72) 50(6.35,-2.72) 51(8.89,2.72) 52(8.89,-2.72) 53(11.43,2.72) 54(11.43,-2.72) 55(13.97,2.72) 56(13.97,-2.72) 57(16.51,2.72) 58(16.51,-2.72) 59(19.05,2.72) 60(19.05,-2.72) 61(21.59,2.72) 62(21.59,-2.72) 63(24.13,2.72) 64(24.13,-2.72) 65(26.67,2.72) 66(26.67,-2.72) 67(29.21,2.72) 68(29.21,-2.72) 69(31.75,2.72) 70(31.75,-2.72) 71(34.29,2.72) 72(34.29,-2.72) 73(36.83,2.72) 74(36.83,-2.72) 75(39.37,2.72) 76(39.37,-2.72) 77(41.91,2.72) 78(41.91,-2.72) 79(44.45,2.72) 80(44.45,-2.72) 81(46.99,2.72) 82(46.99,-2.72) 83(49.53,2.72) 84(49.53,-2.72) 85(52.07,2.72) 86(52.07,-2.72) 87(54.61,2.72) 88(54.61,-2.72)
  round 0.97 hole 0.97: Un1(-54.61,1.27) Un2(-54.61,-1.27) Un4(-52.07,1.27) Un5(-52.07,-1.27) Un6(-49.53,1.27) Un7(-49.53,-1.27) Un8(-46.99,1.27) Un9(-46.99,-1.27) Un10(-44.45,1.27) Un11(-44.45,-1.27) Un12(-41.91,1.27) Un13(-41.91,-1.27) Un14(-39.37,1.27) Un15(-39.37,-1.27) Un16(-36.83,1.27) Un17(-36.83,-1.27) Un18(-34.29,1.27) Un19(-34.29,-1.27) Un20(-31.75,1.27) Un21(-31.75,-1.27) Un22(-29.21,1.27) Un23(-29.21,-1.27) Un24(-26.67,1.27) Un25(-26.67,-1.27) Un26(-24.13,1.27) Un27(-24.13,-1.27) Un28(-21.59,1.27) Un29(-21.59,-1.27) Un30(-19.05,1.27) Un31(-19.05,-1.27) Un32(-16.51,1.27) Un33(-16.51,-1.27) Un34(-13.97,1.27) Un35(-13.97,-1.27) Un36(-11.43,1.27) Un37(-11.43,-1.27) Un38(-8.89,1.27) Un39(-8.89,-1.27) Un40(-6.35,1.27) Un41(-6.35,-1.27) Un42(-3.81,1.27) Un43(-3.81,-1.27) Un44(-1.27,1.27) Un45(-1.27,-1.27) Un46(1.27,1.27) Un47(1.27,-1.27) Un48(3.81,1.27) Un49(3.81,-1.27) Un50(6.35,1.27) Un51(6.35,-1.27) Un52(8.89,1.27) Un53(8.89,-1.27) Un54(11.43,1.27) Un55(11.43,-1.27) Un56(13.97,1.27) Un57(13.97,-1.27) Un58(16.51,1.27) Un59(16.51,-1.27) Un60(19.05,1.27) Un61(19.05,-1.27) Un62(21.59,1.27) Un63(21.59,-1.27) Un64(24.13,1.27) Un65(24.13,-1.27) Un66(26.67,1.27) Un67(26.67,-1.27) Un68(29.21,1.27) Un69(29.21,-1.27) Un70(31.75,1.27) Un71(31.75,-1.27) Un72(34.29,1.27) Un73(34.29,-1.27) Un74(36.83,1.27) Un75(36.83,-1.27) Un76(39.37,1.27) Un77(39.37,-1.27) Un78(41.91,1.27) Un79(41.91,-1.27) Un80(44.45,1.27) Un81(44.45,-1.27) Un82(46.99,1.27) Un83(46.99,-1.27) Un84(49.53,1.27) Un85(49.53,-1.27) Un86(52.07,1.27) Un87(52.07,-1.27) Un89(54.61,1.27) Un90(54.61,-1.27)
  round 1.19 hole 1.19: Un3(-53.34,0) Un88(53.34,0)
F.SilkS:
  lines w0.254: -55.505,-2.65 -55.99,-2.65 -55.99,2.65 -55.505,2.65 -55.505,3.56 ; -53.715,-2.65 -52.965,-2.65 ; -53.715,2.65 -52.965,2.65 ; -51.175,-2.65 -50.425,-2.65 ; -51.175,2.65 -50.425,2.65 ; -48.635,-2.65 -47.885,-2.65 ; -48.635,2.65 -47.885,2.65 ; -46.095,-2.65 -45.345,-2.65 ; -46.095,2.65 -45.345,2.65 ; -43.555,-2.65 -42.805,-2.65 ; -43.555,2.65 -42.805,2.65 ; -41.015,-2.65 -40.265,-2.65 ; -41.015,2.65 -40.265,2.65 ; -38.475,-2.65 -37.725,-2.65 ; -38.475,2.65 -37.725,2.65 ; -35.935,-2.65 -35.185,-2.65 ; -35.935,2.65 -35.185,2.65 ; -33.395,-2.65 -32.645,-2.65 ; -33.395,2.65 -32.645,2.65 ; -30.855,-2.65 -30.105,-2.65 ; -30.855,2.65 -30.105,2.65 ; -28.315,-2.65 -27.565,-2.65 ; -28.315,2.65 -27.565,2.65 ; -25.775,-2.65 -25.025,-2.65 ; -25.775,2.65 -25.025,2.65 ; -23.235,-2.65 -22.485,-2.65 ; -23.235,2.65 -22.485,2.65 ; -20.695,-2.65 -19.945,-2.65 ; -20.695,2.65 -19.945,2.65 ; -18.155,-2.65 -17.405,-2.65 ; -18.155,2.65 -17.405,2.65 ; -15.615,-2.65 -14.865,-2.65 ; -15.615,2.65 -14.865,2.65 ; -13.075,-2.65 -12.325,-2.65 ; -13.075,2.65 -12.325,2.65 ; -10.535,-2.65 -9.785,-2.65 ; -10.535,2.65 -9.785,2.65 ; -7.995,-2.65 -7.245,-2.65 ; -7.995,2.65 -7.245,2.65 ; -5.455,-2.65 -4.705,-2.65 ; -5.455,2.65 -4.705,2.65 ; -2.915,-2.65 -2.165,-2.65 ; -2.915,2.65 -2.165,2.65 ; -0.375,-2.65 0.375,-2.65 ; -0.375,2.65 0.375,2.65 ; 2.165,-2.65 2.915,-2.65 ; 2.165,2.65 2.915,2.65 ; 4.705,-2.65 5.455,-2.65 ; 4.705,2.65 5.455,2.65 ; 7.245,-2.65 7.995,-2.65 ; 7.245,2.65 7.995,2.65 ; 9.785,-2.65 10.535,-2.65 ; 9.785,2.65 10.535,2.65 ; 12.325,-2.65 13.075,-2.65 ; 12.325,2.65 13.075,2.65 ; 14.865,-2.65 15.615,-2.65 ; 14.865,2.65 15.615,2.65 ; 17.405,-2.65 18.155,-2.65 ; 17.405,2.65 18.155,2.65 ; 19.945,-2.65 20.695,-2.65 ; 19.945,2.65 20.695,2.65 ; 22.485,-2.65 23.235,-2.65 ; 22.485,2.65 23.235,2.65 ; 25.025,-2.65 25.775,-2.65 ; 25.025,2.65 25.775,2.65 ; 27.565,-2.65 28.315,-2.65 ; 27.565,2.65 28.315,2.65 ; 30.105,-2.65 30.855,-2.65 ; 30.105,2.65 30.855,2.65 ; 32.645,-2.65 33.395,-2.65 ; 32.645,2.65 33.395,2.65 ; 35.185,-2.65 35.935,-2.65 ; 35.185,2.65 35.935,2.65 ; 37.725,-2.65 38.475,-2.65 ; 37.725,2.65 38.475,2.65 ; 40.265,-2.65 41.015,-2.65 ; 40.265,2.65 41.015,2.65 ; 42.805,-2.65 43.555,-2.65 ; 42.805,2.65 43.555,2.65 ; 45.345,-2.65 46.095,-2.65 ; 45.345,2.65 46.095,2.65 ; 47.885,-2.65 48.635,-2.65 ; 47.885,2.65 48.635,2.65 ; 50.425,-2.65 51.175,-2.65 ; 50.425,2.65 51.175,2.65 ; 52.965,-2.65 53.715,-2.65 ; 52.965,2.65 53.715,2.65 ; 55.505,-2.65 55.99,-2.65 55.99,2.65 55.505,2.65
Top Assembly:
  lines w0.254: -55.11,2.54 -54.61,1.833 -54.11,2.54 ; -55.88,-2.54 55.88,-2.54 55.88,2.54 -55.88,2.54 -55.88,-2.54
  text "'.Designator'" at -4.047,-2.68 h1
Top Courtyard:
  lines w0.254: -56.38,-4.07 56.38,-4.07 56.38,4.07 -56.38,4.07 -56.38,-4.07
Top Designator:
  text ".Designator" at -7.618,-0.508 h1.52

## Samtec_HLE-144-02-xxx-DV-BE_2x44_P2.54mm_Horizontal [mm]
pads (176):
  rect 1.27x1.68 smd: 1(-54.61,2.72) 2(-54.61,-2.72) 3(-52.07,2.72) 4(-52.07,-2.72) 5(-49.53,2.72) 6(-49.53,-2.72) 7(-46.99,2.72) 8(-46.99,-2.72) 9(-44.45,2.72) 10(-44.45,-2.72) 11(-41.91,2.72) 12(-41.91,-2.72) 13(-39.37,2.72) 14(-39.37,-2.72) 15(-36.83,2.72) 16(-36.83,-2.72) 17(-34.29,2.72) 18(-34.29,-2.72) 19(-31.75,2.72) 20(-31.75,-2.72) 21(-29.21,2.72) 22(-29.21,-2.72) 23(-26.67,2.72) 24(-26.67,-2.72) 25(-24.13,2.72) 26(-24.13,-2.72) 27(-21.59,2.72) 28(-21.59,-2.72) 29(-19.05,2.72) 30(-19.05,-2.72) 31(-16.51,2.72) 32(-16.51,-2.72) 33(-13.97,2.72) 34(-13.97,-2.72) 35(-11.43,2.72) 36(-11.43,-2.72) 37(-8.89,2.72) 38(-8.89,-2.72) 39(-6.35,2.72) 40(-6.35,-2.72) 41(-3.81,2.72) 42(-3.81,-2.72) 43(-1.27,2.72) 44(-1.27,-2.72) 45(1.27,2.72) 46(1.27,-2.72) 47(3.81,2.72) 48(3.81,-2.72) 49(6.35,2.72) 50(6.35,-2.72) 51(8.89,2.72) 52(8.89,-2.72) 53(11.43,2.72) 54(11.43,-2.72) 55(13.97,2.72) 56(13.97,-2.72) 57(16.51,2.72) 58(16.51,-2.72) 59(19.05,2.72) 60(19.05,-2.72) 61(21.59,2.72) 62(21.59,-2.72) 63(24.13,2.72) 64(24.13,-2.72) 65(26.67,2.72) 66(26.67,-2.72) 67(29.21,2.72) 68(29.21,-2.72) 69(31.75,2.72) 70(31.75,-2.72) 71(34.29,2.72) 72(34.29,-2.72) 73(36.83,2.72) 74(36.83,-2.72) 75(39.37,2.72) 76(39.37,-2.72) 77(41.91,2.72) 78(41.91,-2.72) 79(44.45,2.72) 80(44.45,-2.72) 81(46.99,2.72) 82(46.99,-2.72) 83(49.53,2.72) 84(49.53,-2.72) 85(52.07,2.72) 86(52.07,-2.72) 87(54.61,2.72) 88(54.61,-2.72)
  round 0.97 hole 0.97: Un1(-54.61,1.27) Un2(-54.61,-1.27) Un3(-52.07,1.27) Un4(-52.07,-1.27) Un5(-49.53,1.27) Un6(-49.53,-1.27) Un7(-46.99,1.27) Un8(-46.99,-1.27) Un9(-44.45,1.27) Un10(-44.45,-1.27) Un11(-41.91,1.27) Un12(-41.91,-1.27) Un13(-39.37,1.27) Un14(-39.37,-1.27) Un15(-36.83,1.27) Un16(-36.83,-1.27) Un17(-34.29,1.27) Un18(-34.29,-1.27) Un19(-31.75,1.27) Un20(-31.75,-1.27) Un21(-29.21,1.27) Un22(-29.21,-1.27) Un23(-26.67,1.27) Un24(-26.67,-1.27) Un25(-24.13,1.27) Un26(-24.13,-1.27) Un27(-21.59,1.27) Un28(-21.59,-1.27) Un29(-19.05,1.27) Un30(-19.05,-1.27) Un31(-16.51,1.27) Un32(-16.51,-1.27) Un33(-13.97,1.27) Un34(-13.97,-1.27) Un35(-11.43,1.27) Un36(-11.43,-1.27) Un37(-8.89,1.27) Un38(-8.89,-1.27) Un39(-6.35,1.27) Un40(-6.35,-1.27) Un41(-3.81,1.27) Un42(-3.81,-1.27) Un43(-1.27,1.27) Un44(-1.27,-1.27) Un45(1.27,1.27) Un46(1.27,-1.27) Un47(3.81,1.27) Un48(3.81,-1.27) Un49(6.35,1.27) Un50(6.35,-1.27) Un51(8.89,1.27) Un52(8.89,-1.27) Un53(11.43,1.27) Un54(11.43,-1.27) Un55(13.97,1.27) Un56(13.97,-1.27) Un57(16.51,1.27) Un58(16.51,-1.27) Un59(19.05,1.27) Un60(19.05,-1.27) Un61(21.59,1.27) Un62(21.59,-1.27) Un63(24.13,1.27) Un64(24.13,-1.27) Un65(26.67,1.27) Un66(26.67,-1.27) Un67(29.21,1.27) Un68(29.21,-1.27) Un69(31.75,1.27) Un70(31.75,-1.27) Un71(34.29,1.27) Un72(34.29,-1.27) Un73(36.83,1.27) Un74(36.83,-1.27) Un75(39.37,1.27) Un76(39.37,-1.27) Un77(41.91,1.27) Un78(41.91,-1.27) Un79(44.45,1.27) Un80(44.45,-1.27) Un81(46.99,1.27) Un82(46.99,-1.27) Un83(49.53,1.27) Un84(49.53,-1.27) Un85(52.07,1.27) Un86(52.07,-1.27) Un87(54.61,1.27) Un88(54.61,-1.27)
F.SilkS:
  lines w0.254: -55.505,-2.65 -55.99,-2.65 -55.99,2.65 -55.505,2.65 -55.505,3.56 ; -53.715,-2.65 -52.965,-2.65 ; -53.715,2.65 -52.965,2.65 ; -51.175,-2.65 -50.425,-2.65 ; -51.175,2.65 -50.425,2.65 ; -48.635,-2.65 -47.885,-2.65 ; -48.635,2.65 -47.885,2.65 ; -46.095,-2.65 -45.345,-2.65 ; -46.095,2.65 -45.345,2.65 ; -43.555,-2.65 -42.805,-2.65 ; -43.555,2.65 -42.805,2.65 ; -41.015,-2.65 -40.265,-2.65 ; -41.015,2.65 -40.265,2.65 ; -38.475,-2.65 -37.725,-2.65 ; -38.475,2.65 -37.725,2.65 ; -35.935,-2.65 -35.185,-2.65 ; -35.935,2.65 -35.185,2.65 ; -33.395,-2.65 -32.645,-2.65 ; -33.395,2.65 -32.645,2.65 ; -30.855,-2.65 -30.105,-2.65 ; -30.855,2.65 -30.105,2.65 ; -28.315,-2.65 -27.565,-2.65 ; -28.315,2.65 -27.565,2.65 ; -25.775,-2.65 -25.025,-2.65 ; -25.775,2.65 -25.025,2.65 ; -23.235,-2.65 -22.485,-2.65 ; -23.235,2.65 -22.485,2.65 ; -20.695,-2.65 -19.945,-2.65 ; -20.695,2.65 -19.945,2.65 ; -18.155,-2.65 -17.405,-2.65 ; -18.155,2.65 -17.405,2.65 ; -15.615,-2.65 -14.865,-2.65 ; -15.615,2.65 -14.865,2.65 ; -13.075,-2.65 -12.325,-2.65 ; -13.075,2.65 -12.325,2.65 ; -10.535,-2.65 -9.785,-2.65 ; -10.535,2.65 -9.785,2.65 ; -7.995,-2.65 -7.245,-2.65 ; -7.995,2.65 -7.245,2.65 ; -5.455,-2.65 -4.705,-2.65 ; -5.455,2.65 -4.705,2.65 ; -2.915,-2.65 -2.165,-2.65 ; -2.915,2.65 -2.165,2.65 ; -0.375,-2.65 0.375,-2.65 ; -0.375,2.65 0.375,2.65 ; 2.165,-2.65 2.915,-2.65 ; 2.165,2.65 2.915,2.65 ; 4.705,-2.65 5.455,-2.65 ; 4.705,2.65 5.455,2.65 ; 7.245,-2.65 7.995,-2.65 ; 7.245,2.65 7.995,2.65 ; 9.785,-2.65 10.535,-2.65 ; 9.785,2.65 10.535,2.65 ; 12.325,-2.65 13.075,-2.65 ; 12.325,2.65 13.075,2.65 ; 14.865,-2.65 15.615,-2.65 ; 14.865,2.65 15.615,2.65 ; 17.405,-2.65 18.155,-2.65 ; 17.405,2.65 18.155,2.65 ; 19.945,-2.65 20.695,-2.65 ; 19.945,2.65 20.695,2.65 ; 22.485,-2.65 23.235,-2.65 ; 22.485,2.65 23.235,2.65 ; 25.025,-2.65 25.775,-2.65 ; 25.025,2.65 25.775,2.65 ; 27.565,-2.65 28.315,-2.65 ; 27.565,2.65 28.315,2.65 ; 30.105,-2.65 30.855,-2.65 ; 30.105,2.65 30.855,2.65 ; 32.645,-2.65 33.395,-2.65 ; 32.645,2.65 33.395,2.65 ; 35.185,-2.65 35.935,-2.65 ; 35.185,2.65 35.935,2.65 ; 37.725,-2.65 38.475,-2.65 ; 37.725,2.65 38.475,2.65 ; 40.265,-2.65 41.015,-2.65 ; 40.265,2.65 41.015,2.65 ; 42.805,-2.65 43.555,-2.65 ; 42.805,2.65 43.555,2.65 ; 45.345,-2.65 46.095,-2.65 ; 45.345,2.65 46.095,2.65 ; 47.885,-2.65 48.635,-2.65 ; 47.885,2.65 48.635,2.65 ; 50.425,-2.65 51.175,-2.65 ; 50.425,2.65 51.175,2.65 ; 52.965,-2.65 53.715,-2.65 ; 52.965,2.65 53.715,2.65 ; 55.505,-2.65 55.99,-2.65 55.99,2.65 55.505,2.65
Top Assembly:
  lines w0.254: -55.11,2.54 -54.61,1.833 -54.11,2.54 ; -55.88,-2.54 55.88,-2.54 55.88,2.54 -55.88,2.54 -55.88,-2.54
  text "'.Designator'" at -4.047,-2.68 h1
Top Courtyard:
  lines w0.254: -56.38,-4.07 56.38,-4.07 56.38,4.07 -56.38,4.07 -56.38,-4.07
Top Designator:
  text ".Designator" at -7.618,-0.508 h1.52

## Samtec_HLE-144-02-xxx-DV-LC_2x44_P2.54mm_Horizontal [mm]
pads (90):
  rect 1.27x2.29 smd: 1(-54.61,2.525) 2(-54.61,-2.525) 3(-52.07,2.525) 4(-52.07,-2.525) 5(-49.53,2.525) 6(-49.53,-2.525) 7(-46.99,2.525) 8(-46.99,-2.525) 9(-44.45,2.525) 10(-44.45,-2.525) 11(-41.91,2.525) 12(-41.91,-2.525) 13(-39.37,2.525) 14(-39.37,-2.525) 15(-36.83,2.525) 16(-36.83,-2.525) 17(-34.29,2.525) 18(-34.29,-2.525) 19(-31.75,2.525) 20(-31.75,-2.525) 21(-29.21,2.525) 22(-29.21,-2.525) 23(-26.67,2.525) 24(-26.67,-2.525) 25(-24.13,2.525) 26(-24.13,-2.525) 27(-21.59,2.525) 28(-21.59,-2.525) 29(-19.05,2.525) 30(-19.05,-2.525) 31(-16.51,2.525) 32(-16.51,-2.525) 33(-13.97,2.525) 34(-13.97,-2.525) 35(-11.43,2.525) 36(-11.43,-2.525) 37(-8.89,2.525) 38(-8.89,-2.525) 39(-6.35,2.525) 40(-6.35,-2.525) 41(-3.81,2.525) 42(-3.81,-2.525) 43(-1.27,2.525) 44(-1.27,-2.525) 45(1.27,2.525) 46(1.27,-2.525) 47(3.81,2.525) 48(3.81,-2.525) 49(6.35,2.525) 50(6.35,-2.525) 51(8.89,2.525) 52(8.89,-2.525) 53(11.43,2.525) 54(11.43,-2.525) 55(13.97,2.525) 56(13.97,-2.525) 57(16.51,2.525) 58(16.51,-2.525) 59(19.05,2.525) 60(19.05,-2.525) 61(21.59,2.525) 62(21.59,-2.525) 63(24.13,2.525) 64(24.13,-2.525) 65(26.67,2.525) 66(26.67,-2.525) 67(29.21,2.525) 68(29.21,-2.525) 69(31.75,2.525) 70(31.75,-2.525) 71(34.29,2.525) 72(34.29,-2.525) 73(36.83,2.525) 74(36.83,-2.525) 75(39.37,2.525) 76(39.37,-2.525) 77(41.91,2.525) 78(41.91,-2.525) 79(44.45,2.525) 80(44.45,-2.525) 81(46.99,2.525) 82(46.99,-2.525) 83(49.53,2.525) 84(49.53,-2.525) 85(52.07,2.525) 86(52.07,-2.525) 87(54.61,2.525) 88(54.61,-2.525)
  round 1.19 hole 1.19: Un1(-53.34,0) Un2(53.34,0)
F.SilkS:
  lines w0.254: -55.505,-2.65 -55.99,-2.65 -55.99,2.65 -55.505,2.65 -55.505,3.67 ; -53.715,-2.65 -52.965,-2.65 ; -53.715,2.65 -52.965,2.65 ; -51.175,-2.65 -50.425,-2.65 ; -51.175,2.65 -50.425,2.65 ; -48.635,-2.65 -47.885,-2.65 ; -48.635,2.65 -47.885,2.65 ; -46.095,-2.65 -45.345,-2.65 ; -46.095,2.65 -45.345,2.65 ; -43.555,-2.65 -42.805,-2.65 ; -43.555,2.65 -42.805,2.65 ; -41.015,-2.65 -40.265,-2.65 ; -41.015,2.65 -40.265,2.65 ; -38.475,-2.65 -37.725,-2.65 ; -38.475,2.65 -37.725,2.65 ; -35.935,-2.65 -35.185,-2.65 ; -35.935,2.65 -35.185,2.65 ; -33.395,-2.65 -32.645,-2.65 ; -33.395,2.65 -32.645,2.65 ; -30.855,-2.65 -30.105,-2.65 ; -30.855,2.65 -30.105,2.65 ; -28.315,-2.65 -27.565,-2.65 ; -28.315,2.65 -27.565,2.65 ; -25.775,-2.65 -25.025,-2.65 ; -25.775,2.65 -25.025,2.65 ; -23.235,-2.65 -22.485,-2.65 ; -23.235,2.65 -22.485,2.65 ; -20.695,-2.65 -19.945,-2.65 ; -20.695,2.65 -19.945,2.65 ; -18.155,-2.65 -17.405,-2.65 ; -18.155,2.65 -17.405,2.65 ; -15.615,-2.65 -14.865,-2.65 ; -15.615,2.65 -14.865,2.65 ; -13.075,-2.65 -12.325,-2.65 ; -13.075,2.65 -12.325,2.65 ; -10.535,-2.65 -9.785,-2.65 ; -10.535,2.65 -9.785,2.65 ; -7.995,-2.65 -7.245,-2.65 ; -7.995,2.65 -7.245,2.65 ; -5.455,-2.65 -4.705,-2.65 ; -5.455,2.65 -4.705,2.65 ; -2.915,-2.65 -2.165,-2.65 ; -2.915,2.65 -2.165,2.65 ; -0.375,-2.65 0.375,-2.65 ; -0.375,2.65 0.375,2.65 ; 2.165,-2.65 2.915,-2.65 ; 2.165,2.65 2.915,2.65 ; 4.705,-2.65 5.455,-2.65 ; 4.705,2.65 5.455,2.65 ; 7.245,-2.65 7.995,-2.65 ; 7.245,2.65 7.995,2.65 ; 9.785,-2.65 10.535,-2.65 ; 9.785,2.65 10.535,2.65 ; 12.325,-2.65 13.075,-2.65 ; 12.325,2.65 13.075,2.65 ; 14.865,-2.65 15.615,-2.65 ; 14.865,2.65 15.615,2.65 ; 17.405,-2.65 18.155,-2.65 ; 17.405,2.65 18.155,2.65 ; 19.945,-2.65 20.695,-2.65 ; 19.945,2.65 20.695,2.65 ; 22.485,-2.65 23.235,-2.65 ; 22.485,2.65 23.235,2.65 ; 25.025,-2.65 25.775,-2.65 ; 25.025,2.65 25.775,2.65 ; 27.565,-2.65 28.315,-2.65 ; 27.565,2.65 28.315,2.65 ; 30.105,-2.65 30.855,-2.65 ; 30.105,2.65 30.855,2.65 ; 32.645,-2.65 33.395,-2.65 ; 32.645,2.65 33.395,2.65 ; 35.185,-2.65 35.935,-2.65 ; 35.185,2.65 35.935,2.65 ; 37.725,-2.65 38.475,-2.65 ; 37.725,2.65 38.475,2.65 ; 40.265,-2.65 41.015,-2.65 ; 40.265,2.65 41.015,2.65 ; 42.805,-2.65 43.555,-2.65 ; 42.805,2.65 43.555,2.65 ; 45.345,-2.65 46.095,-2.65 ; 45.345,2.65 46.095,2.65 ; 47.885,-2.65 48.635,-2.65 ; 47.885,2.65 48.635,2.65 ; 50.425,-2.65 51.175,-2.65 ; 50.425,2.65 51.175,2.65 ; 52.965,-2.65 53.715,-2.65 ; 52.965,2.65 53.715,2.65 ; 55.505,-2.65 55.99,-2.65 55.99,2.65 55.505,2.65
Top Assembly:
  lines w0.254: -55.11,2.54 -54.61,1.833 -54.11,2.54 ; -55.88,-2.54 55.88,-2.54 55.88,2.54 -55.88,2.54 -55.88,-2.54
  text "'.Designator'" at -4.047,-2.68 h1
Top Courtyard:
  lines w0.254: -56.38,-4.17 56.38,-4.17 56.38,4.17 -56.38,4.17 -56.38,-4.17
Top Designator:
  text ".Designator" at -7.618,-0.508 h1.52